# Altium footprint library RESAD11000W85L6000D1250.PcbLib: 1 footprints
Each footprint in its own frame and in the unit in brackets; x right, y up, seen from the top. Pads: shape width x height; smd on the part's side, far side on the other; paste and mask are expansions set on the pad; w line width, h text height; cw(c..) or ccw(c..) is an arc to the next point about the centre after c.
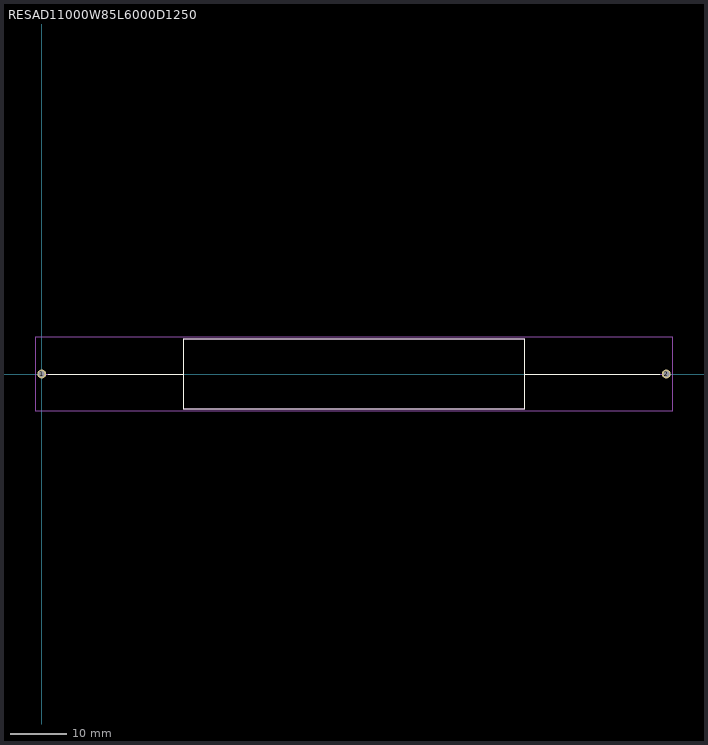
[diagram p0: the footprint, top view; thin cyan lines are the x and y axes]

## RESAD11000W85L6000D1250 [mm]
pads (2):
  round 1.575 hole 1.05: 1(0,0) 2(110,0)
Top Overlay:
  lines w0.2: 1.138,0 25,0 ; 85,0 108.862,0 ; 25,-6.25 85,-6.25 85,6.25 25,6.25 25,-6.25
Mechanical 15:
  lines w0.1: 0,0 25,0 ; 85,0 110,0 ; 25,-6.25 85,-6.25 85,6.25 25,6.25 25,-6.25
Mechanical 20:
  lines w0.05: -1.038,-6.6 111.037,-6.6 111.037,6.6 -1.038,6.6 -1.038,-6.6